# Altium schematic symbol library con-shallin.SCHLIB: 1 symbol
Pins are listed as number, name and electrical type; pins without a type are passive.

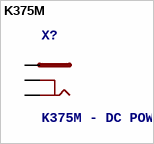
[diagram p0: symbol K375M]

## K375M
designator X?, comment K375M - DC POWER JACK 2.5mm/CENTRAL PIN   Source:  Data sheet
footprint K375M
pins: 1, 2, 3